# EAGLE library part DS3231 (library OSSIdonghee)
DS3231 Extremely Accureate I2C integrated RTC/TCXO/Crystal by MAXIM
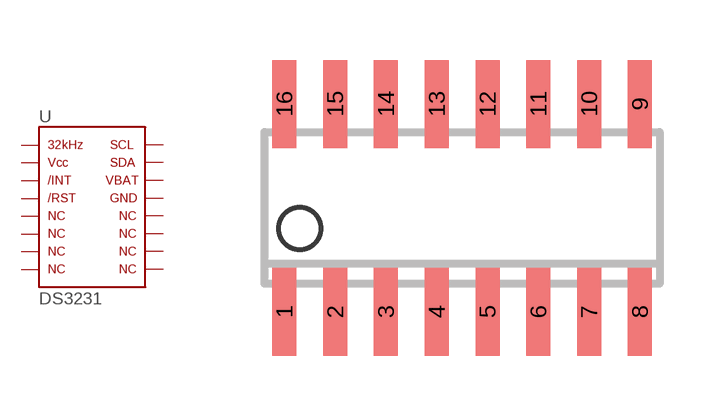
[diagram p10: symbol with the pads of SO16; footprint SO16]

Designator prefix U

## DS3231  [SO16]
1  P$1  out
2  P$2  pwr
3  P$3  out
4  P$4  in
5  P$5  nc
6  P$6  nc
7  P$7  nc
8  P$8  nc
9  P$9  nc
10  P$10  nc
11  P$11  nc
12  P$12  nc
13  P$13  pwr
14  P$14  pwr
15  P$15
16  P$16  in

## Footprint SO16 (pad centres in mm)
smd 0.6 x 2.2: 1 -4.445,-2.6; 2 -3.175,-2.6; 3 -1.905,-2.6; 4 -0.635,-2.6; 5 0.635,-2.6; 6 1.905,-2.6; 7 3.175,-2.6; 8 4.445,-2.6; 9 4.445,2.6; 10 3.175,2.6; 11 1.905,2.6; 12 0.635,2.6; 13 -0.635,2.6; 14 -1.905,2.6; 15 -3.175,2.6; 16 -4.445,2.6